# Altium schematic symbol library main_SchLib.SchLib: 27 symbols
Pins are listed as number, name and electrical type; pins without a type are passive.

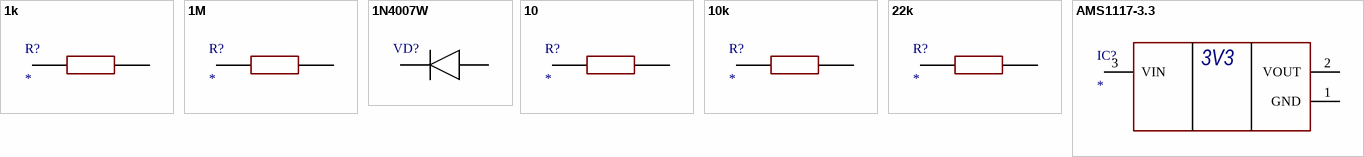
[diagram p0: symbols 1k to AMS1117-3.3]

## 1k
designator R?
Resistor; Manufacturer_Name: Multicomp Pro; Manufacturer_Part_Number: MP000277; Datasheet Link: http://www.farnell.com/datasheets/2818227.pdf?_ga=2.267231047.871788558.1580380855-2055961957.1580380855&_gac=1.245689776.1580380855.EAIaIQobChMI-IPluZGr5wIVSbTtCh2dnAIbEAAYASAAEgItj_D_BwE; Height: 0.65mm
footprint RESC3126X65N
pins: 1, 2

## 1M
designator R?
Resistor; Manufacturer_Name: Multicomp Pro; Manufacturer_Part_Number: MP000277; Datasheet Link: http://www.farnell.com/datasheets/2818227.pdf?_ga=2.267231047.871788558.1580380855-2055961957.1580380855&_gac=1.245689776.1580380855.EAIaIQobChMI-IPluZGr5wIVSbTtCh2dnAIbEAAYASAAEgItj_D_BwE; Height: 0.65mm
footprint RESC3126X65N
pins: 1, 2

## 1N4007W
designator VD?  (value not drawn)
Diode; Manufacturer_Name: Jingdao Microelectronics; Manufacturer_Part_Number: 1N4007W; Datasheet Link: https://datasheet.lcsc.com/szlcsc/Shandong-Jingdao-Microelectronics-1N4007W_C108803.pdf; Height: 1.1mm
footprint 1N4007W
pins: 1 K, 2 A

## 10
designator R?
Resistor; Manufacturer_Name: Multicomp Pro; Manufacturer_Part_Number: MP000277; Datasheet Link: http://www.farnell.com/datasheets/2818227.pdf?_ga=2.267231047.871788558.1580380855-2055961957.1580380855&_gac=1.245689776.1580380855.EAIaIQobChMI-IPluZGr5wIVSbTtCh2dnAIbEAAYASAAEgItj_D_BwE; Height: 0.65mm
footprint RESC3126X65N
pins: 1, 2

## 10k
designator R?
Resistor; Manufacturer_Name: Multicomp Pro; Manufacturer_Part_Number: MP000277; Datasheet Link: http://www.farnell.com/datasheets/2818227.pdf?_ga=2.267231047.871788558.1580380855-2055961957.1580380855&_gac=1.245689776.1580380855.EAIaIQobChMI-IPluZGr5wIVSbTtCh2dnAIbEAAYASAAEgItj_D_BwE; Height: 0.65mm
footprint RESC3126X65N
pins: 1, 2

## 22k
designator R?
Resistor; Manufacturer_Name: Multicomp Pro; Manufacturer_Part_Number: MP000277; Datasheet Link: http://www.farnell.com/datasheets/2818227.pdf?_ga=2.267231047.871788558.1580380855-2055961957.1580380855&_gac=1.245689776.1580380855.EAIaIQobChMI-IPluZGr5wIVSbTtCh2dnAIbEAAYASAAEgItj_D_BwE; Height: 0.65mm
footprint RESC3126X65N
pins: 1, 2

## AMS1117-3.3
designator IC?
Integrated Circuit; Manufacturer_Name: Advanced; Manufacturer_Part_Number: AMS1117-3.3; Datasheet Link: https://datasheet.datasheetarchive.com/originals/distributors/Datasheets-28/DSA-550594.pdf; Height: 1.8mm
footprint SOT229P700X180-4N
pins: 1 GND, 2 VOUT, 3 VIN
text: 3V3

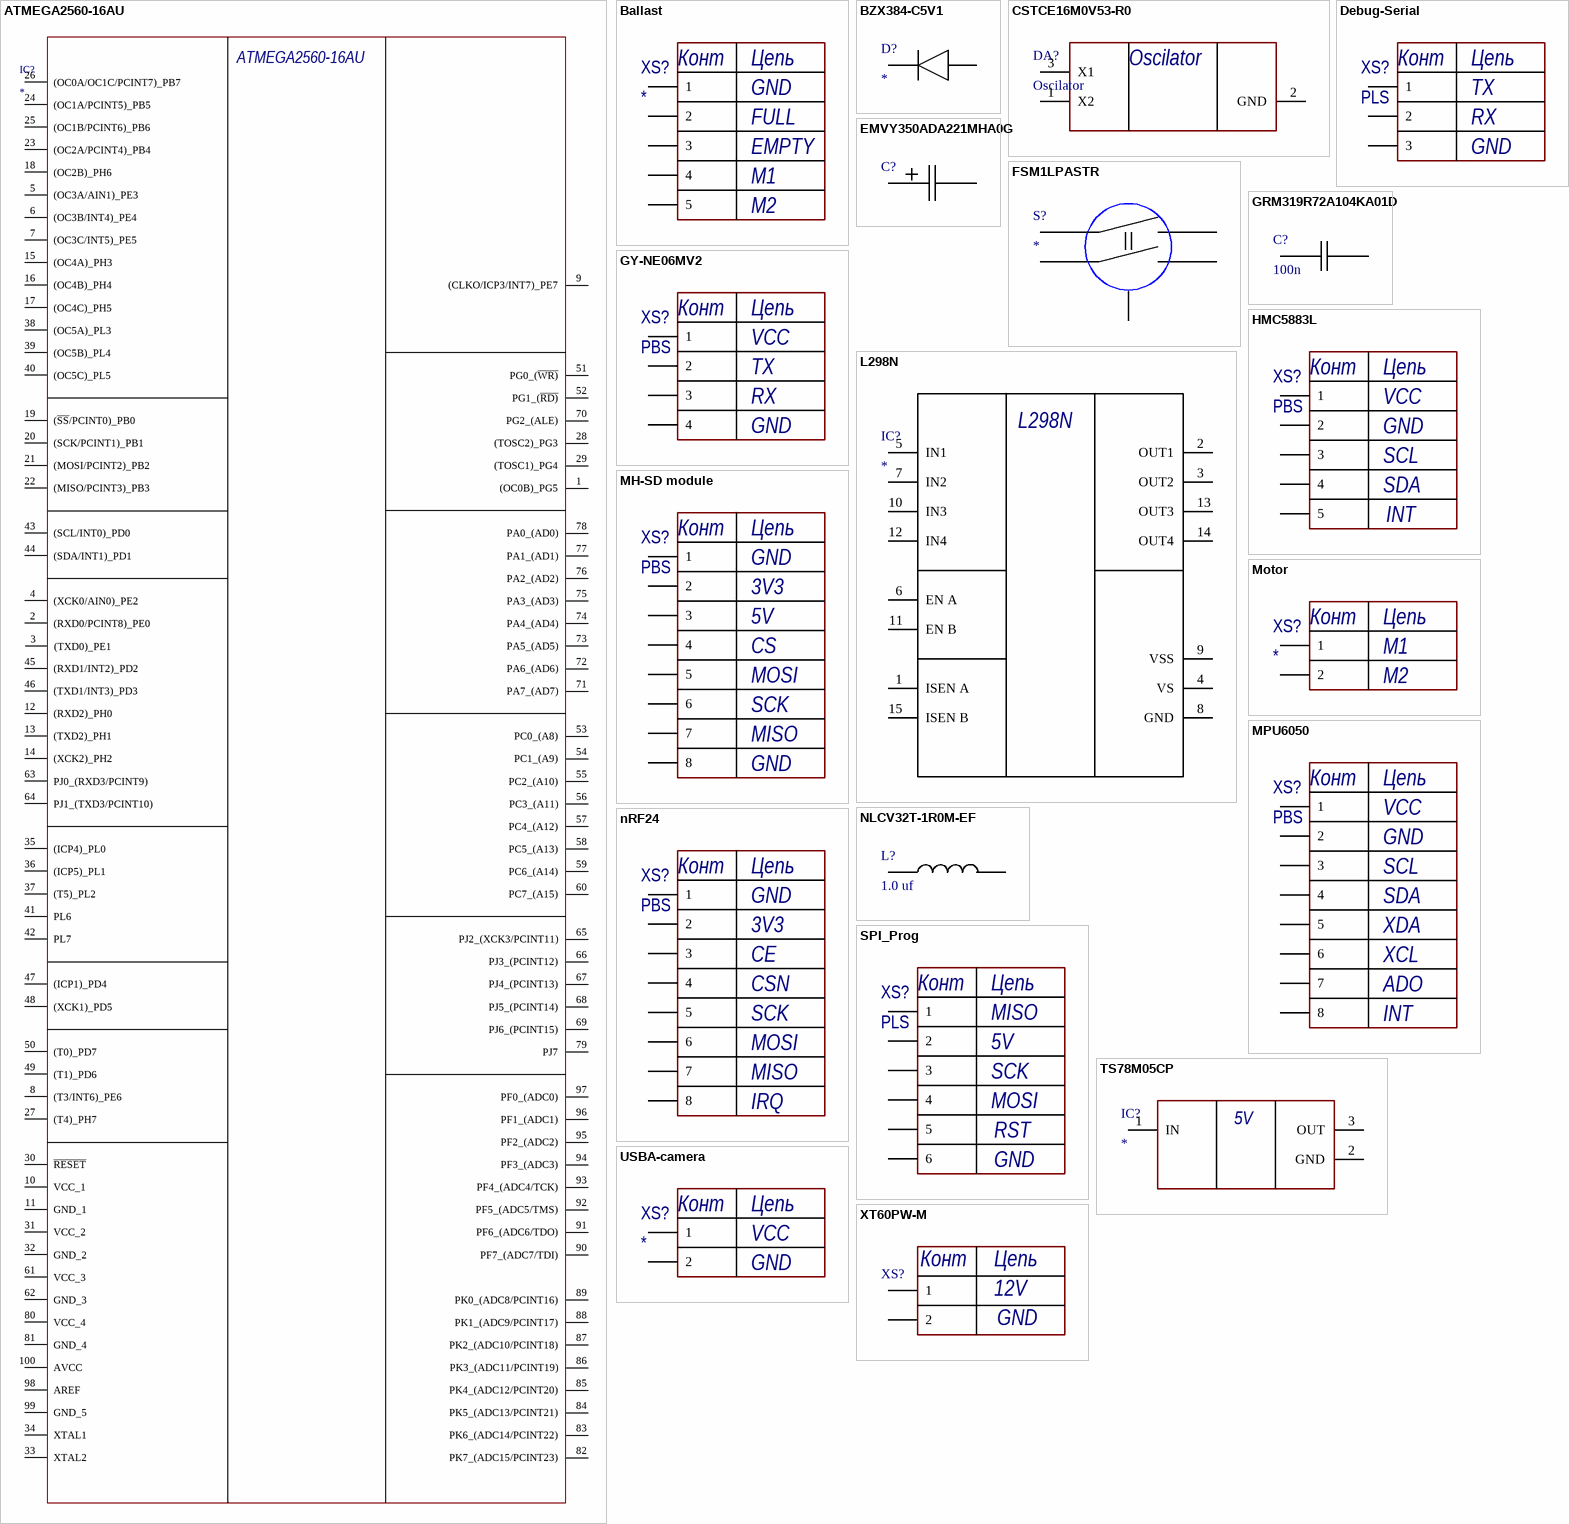
[diagram p1: symbols ATMEGA2560-16AU to XT60PW-M]

## ATMEGA2560-16AU
designator IC?
Integrated Circuit; Manufacturer_Name: Microchip; Manufacturer_Part_Number: ATMEGA2560-16AU; Datasheet Link: https://datasheet.datasheetarchive.com/originals/distributors/Datasheets_SAMA/4a5a397fa76c39b5297f4121ace1d84e.pdf; Height: 1.2mm; Mouser Part Number: 556-ATMEGA2560-16AU; Mouser Price/Stock: https://www.mouser.co.uk/ProductDetail/Microchip-Technology/ATMEGA2560-16AU?qs=aqrrBurbvGciYmlAokFS0w%3D%3D; Arrow Part Number: ATMEGA2560-16AU; Arrow Price/Stock: null?region=nac
footprint QFP50P1600X1600X120-100N
pins: 1 (OC0B)_PG5, 2 (RXD0/PCINT8)_PE0, 3 (TXD0)_PE1, 4 (XCK0/AIN0)_PE2, 5 (OC3A/AIN1)_PE3, 6 (OC3B/INT4)_PE4, 7 (OC3C/INT5)_PE5, 8 (T3/INT6)_PE6, 9 (CLKO/ICP3/INT7)_PE7, 10 VCC_1, 11 GND_1, 12 (RXD2)_PH0, 13 (TXD2)_PH1, 14 (XCK2)_PH2, 15 (OC4A)_PH3, 16 (OC4B)_PH4, 17 (OC4C)_PH5, 18 (OC2B)_PH6, 19 (~{SS}/PCINT0)_PB0, 20 (SCK/PCINT1)_PB1, 21 (MOSI/PCINT2)_PB2, 22 (MISO/PCINT3)_PB3, 23 (OC2A/PCINT4)_PB4, 24 (OC1A/PCINT5)_PB5, 25 (OC1B/PCINT6)_PB6, 26 (OC0A/OC1C/PCINT7)_PB7, 27 (T4)_PH7, 28 (TOSC2)_PG3, 29 (TOSC1)_PG4, 30 ~{RESET}, 31 VCC_2, 32 GND_2, 33 XTAL2, 34 XTAL1, 35 (ICP4)_PL0, 36 (ICP5)_PL1, 37 (T5)_PL2, 38 (OC5A)_PL3, 39 (OC5B)_PL4, 40 (OC5C)_PL5, 41 PL6, 42 PL7, 43 (SCL/INT0)_PD0, 44 (SDA/INT1)_PD1, 45 (RXD1/INT2)_PD2, 46 (TXD1/INT3)_PD3, 47 (ICP1)_PD4, 48 (XCK1)_PD5, 49 (T1)_PD6, 50 (T0)_PD7, 51 PG0_(~{WR)}, 52 PG1_(~{RD)}, 53 PC0_(A8), 54 PC1_(A9), 55 PC2_(A10), 56 PC3_(A11), 57 PC4_(A12), 58 PC5_(A13), 59 PC6_(A14), 60 PC7_(A15), 61 VCC_3, 62 GND_3, 63 PJ0_(RXD3/PCINT9), 64 PJ1_(TXD3/PCINT10), 65 PJ2_(XCK3/PCINT11), 66 PJ3_(PCINT12), 67 PJ4_(PCINT13), 68 PJ5_(PCINT14), 69 PJ6_(PCINT15), 70 PG2_(ALE), 71 PA7_(AD7), 72 PA6_(AD6), 73 PA5_(AD5), 74 PA4_(AD4), 75 PA3_(AD3), 76 PA2_(AD2), 77 PA1_(AD1), 78 PA0_(AD0), 79 PJ7, 80 VCC_4, 81 GND_4, 82 PK7_(ADC15/PCINT23), 83 PK6_(ADC14/PCINT22), 84 PK5_(ADC13/PCINT21), 85 PK4_(ADC12/PCINT20), 86 PK3_(ADC11/PCINT19), 87 PK2_(ADC10/PCINT18), 88 PK1_(ADC9/PCINT17), 89 PK0_(ADC8/PCINT16), 90 PF7_(ADC7/TDI), 91 PF6_(ADC6/TDO), 92 PF5_(ADC5/TMS), 93 PF4_(ADC4/TCK), 94 PF3_(ADC3), 95 PF2_(ADC2), 96 PF1_(ADC1), 97 PF0_(ADC0), 98 AREF, 99 GND_5, 100 AVCC

## Ballast
designator XS?
Connector
footprint S5B-XH-A-1
pins: 1, 2, 3, 4, 5
text: Конт; Цепь; GND; FULL; EMPTY; M1; M2

## BZX384-C5V1
designator D?
Diode; Manufacturer_Name: Nexperia; Manufacturer_Part_Number: BZX384-C5V1; Description: NXP BZX384-C5V1 Zener Diode; Datasheet Link: https://datasheet.datasheetarchive.com/originals/distributors/Datasheets-20/DSA-380037.pdf; Height: 1.1mm; Mouser Part Number: N/A; Mouser Price/Stock: https://www.mouser.co.uk/ProductDetail/Nexperia/BZX384-C5V1?qs=vHuUswq2%252Bszm012Dq%252BI0lA%3D%3D
footprint SOD2512X110N
pins: 1 K, 2 A

## CSTCE16M0V53-R0
designator DA?, comment Oscilator
Oscillator; Manufacturer_Name: Murata Electronics; Manufacturer_Part_Number: CSTCE16M0V53-R0; Datasheet Link: https://www.murata.com/en-sg/products/productdetail?partno=CSTCE16M0V53-R0; Height: 1mm; Mouser Part Number: 81-CSTCE16M0V53-R0; Mouser Price/Stock: https://www.mouser.co.uk/ProductDetail/Murata-Electronics/CSTCE16M0V53-R0?qs=HPA2Xx%252BU0WhPWbRcNuzhZw%3D%3D
footprint CSTCE16M0V53R0
pins: 1 X2, 2 GND, 3 X1

## Debug-Serial
designator XS?, comment PLS
Connector
footprint PLS_1x3
pins: 1, 2, 3
text: Конт; Цепь; TX; RX; GND

## EMVY350ADA221MHA0G
designator C?  (value not drawn)
Capacitor; Manufacturer_Name: Chemi-Con; Manufacturer_Part_Number: EMVY350ADA221MHA0G; Datasheet Link: https://componentsearchengine.com/Datasheets/1/EMVY350ADA221MHA0G.pdf; Height: 10.5mm; Mouser Part Number: 661-EMVY350ADA221MHA; Mouser Price/Stock: https://www.mouser.co.uk/ProductDetail/United-Chemi-Con/EMVY350ADA221MHA0G?qs=75gN6mbWSpp8aC7huPmjnA%3D%3D
footprint CAPAE830X1050N
pins: 1 +, 2 -

## FSM1LPASTR
designator S?
Switch; Manufacturer_Name: TE Connectivity; Manufacturer_Part_Number: FSM1LPASTR; Datasheet Link: https://www.mouser.in/datasheet/2/418/8/ENG_CD_1977263_A4-2580310.pdf; Height: 3.4mm; Mouser Part Number: 506-FSM1LPASTR; Mouser Price/Stock: https://www.mouser.co.uk/ProductDetail/TE-Connectivity-Alcoswitch/FSM1LPASTR?qs=Of7OaoM7rsHQhVPJYy1acQ%3D%3D
footprint FSM1LPASTR
pins: 1 COM_1, 2 COM_2, 3 NO_1, 4 NO_2, 5 GND

## GRM319R72A104KA01D
designator C?, comment 100n
Capacitor; Manufacturer_Name: Murata Electronics; Manufacturer_Part_Number: GRM319R72A104KA01D; Datasheet Link: https://search.murata.co.jp/Ceramy/image/img/A01X/G101/ENG/GRM319R72A104KA01-01A.pdf; Height: 0.95mm; Mouser Part Number: 81-GRM319R72A104KA1D; Mouser Price/Stock: https://www.mouser.co.uk/ProductDetail/Murata-Electronics/GRM319R72A104KA01D?qs=aHh07ZX1ACw840PhdyBNvA%3D%3D; Arrow Part Number: GRM319R72A104KA01D; Arrow Price/Stock: https://www.arrow.com/en/products/grm319r72a104ka01d/murata-manufacturing?region=europe
footprint CAPC3216X95N
pins: 1, 2

## GY-NE06MV2
designator XS?, comment PBS
Connector
footprint GY-GPS
pins: 1, 2, 3, 4
text: Конт; Цепь; VCC; TX; RX; GND

## HMC5883L
designator XS?, comment PBS
Connector
footprint HMC5883L
pins: 1, 2, 3, 4, 5
text: Конт; Цепь; VCC; GND; SCL; SDA; INT

## L298N
designator IC?
Integrated Circuit; Manufacturer_Name: STMicroelectronics; Manufacturer_Part_Number: L298N; Datasheet Link: http://www.st.com/web/en/resource/technical/document/datasheet/CD00000240.pdf; Height: 5mm; Mouser Part Number: 511-L298; Mouser Price/Stock: https://www.mouser.co.uk/ProductDetail/STMicroelectronics/L298N?qs=gr8Zi5OG3Mj6jDtNclcF9Q%3D%3D; Arrow Part Number: L298N; Arrow Price/Stock: https://www.arrow.com/en/products/l298n/stmicroelectronics?region=europe
footprint TO127P500X2020X2210-15P
pins: 1 ISEN A (power), 2 OUT1 (power), 3 OUT2 (power), 4 VS (power), 5 IN1 (power), 6 EN A (power), 7 IN2 (power), 8 GND (power), 9 VSS (power), 10 IN3 (power), 11 EN B (power), 12 IN4 (power), 13 OUT3 (power), 14 OUT4 (power), 15 ISEN B (power)

## MH-SD module
designator XS?, comment PBS
Connector
footprint SD-module
pins: 1, 2, 3, 4, 5, 6, 7, 8
text: Конт; Цепь; GND; 3V3; 5V; CS; MOSI; SCK; MISO

## Motor
designator XS?
Connector
footprint S2B-XH-A-1
pins: 1, 2
text: Конт; Цепь; M1; M2

## MPU6050
designator XS?, comment PBS
Connector
footprint MPU6050
pins: 1, 2, 3, 4, 5, 6, 7, 8
text: Конт; Цепь; VCC; GND; SCL; SDA; XDA; XCL; ADO; INT

## NLCV32T-1R0M-EF
designator L?, comment 1.0 uf
Inductor; Manufacturer_Name: TDK; Manufacturer_Part_Number: NLCV32T-1R0M-EF; Datasheet Link: https://product.tdk.com/system/files/dam/doc/product/inductor/inductor/smd/catalog/inductor_commercial_decoupling_nlcv32-ef_en.pdf; Height: 2.4mm; Mouser Part Number: 810-NLCV32T-1R0M-EF; Mouser Price/Stock: https://www.mouser.co.uk/ProductDetail/TDK/NLCV32T-1R0M-EF?qs=0rbOLB9uh%252BCtPRP0lL0opQ%3D%3D; Arrow Part Number: NLCV32T-1R0M-EF; Arrow Price/Stock: https://www.arrow.com/en/products/nlcv32t-1r0m-ef/tdk
footprint INDPM3225X240N
pins: 1, 2

## nRF24
designator XS?, comment PBS
Connector
footprint nRF24
pins: 1, 2, 3, 4, 5, 6, 7, 8
text: Конт; Цепь; GND; 3V3; CE; CSN; SCK; MOSI; MISO; IRQ

## SPI_Prog
designator XS?, comment PLS
Connector
footprint PLS_2x3
pins: 1, 2, 3, 4, 5, 6
text: Конт; Цепь; MISO; 5V; SCK; MOSI; RST; GND

## TS78M05CP
designator IC?
Integrated Circuit; Manufacturer_Name: Taiwan Semiconductor; Manufacturer_Part_Number: TS78M05CP; Datasheet Link: https://componentsearchengine.com/Datasheets/1/TS78M05CP.pdf; Height: 2.38mm; Mouser Part Number: 821-TS78M05CP; Mouser Price/Stock: https://www.mouser.co.uk/ProductDetail/Taiwan-Semiconductor/TS78M05CP?qs=F0bBuU9YDEzJZsmmDzcbEA%3D%3D
footprint TS78M05CP
pins: 1 IN, 2 GND, 3 OUT
text: 5V

## USBA-camera
designator XS?
Connector
footprint TYPE-C-SMD
pins: 1, 4 2
text: Конт; Цепь; VCC; GND

## XT60PW-M
designator XS?  (value not drawn)
Connector; Manufacturer_Name: Changzou Amass Elec; Manufacturer_Part_Number: XT60PW-M; Datasheet Link: https://www.tme.eu/Document/9b8d0c5eb7094295f3d3112c214d3ade/XT60PW%20SPEC.pdf; Height: 8.4mm
footprint XT60PWM (Footprint not found)
pins: 1, 2
text: Конт; Цепь; 12V; GND